# Altium schematic symbol library conn-7x1_0.Schlib: 1 symbol
Pins are listed as number, name and electrical type; pins without a type are passive.

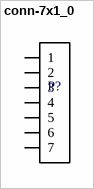
[diagram p0: symbol conn-7x1_0]

## conn-7x1_0
designator P?  (value not drawn)
Connector, 7x1
pins: 1, 2, 3, 4, 5, 6, 7